# Altium schematic symbol library IMR_LIB_SCH_R2.SchLib: 166 symbols (part 2 of 2)
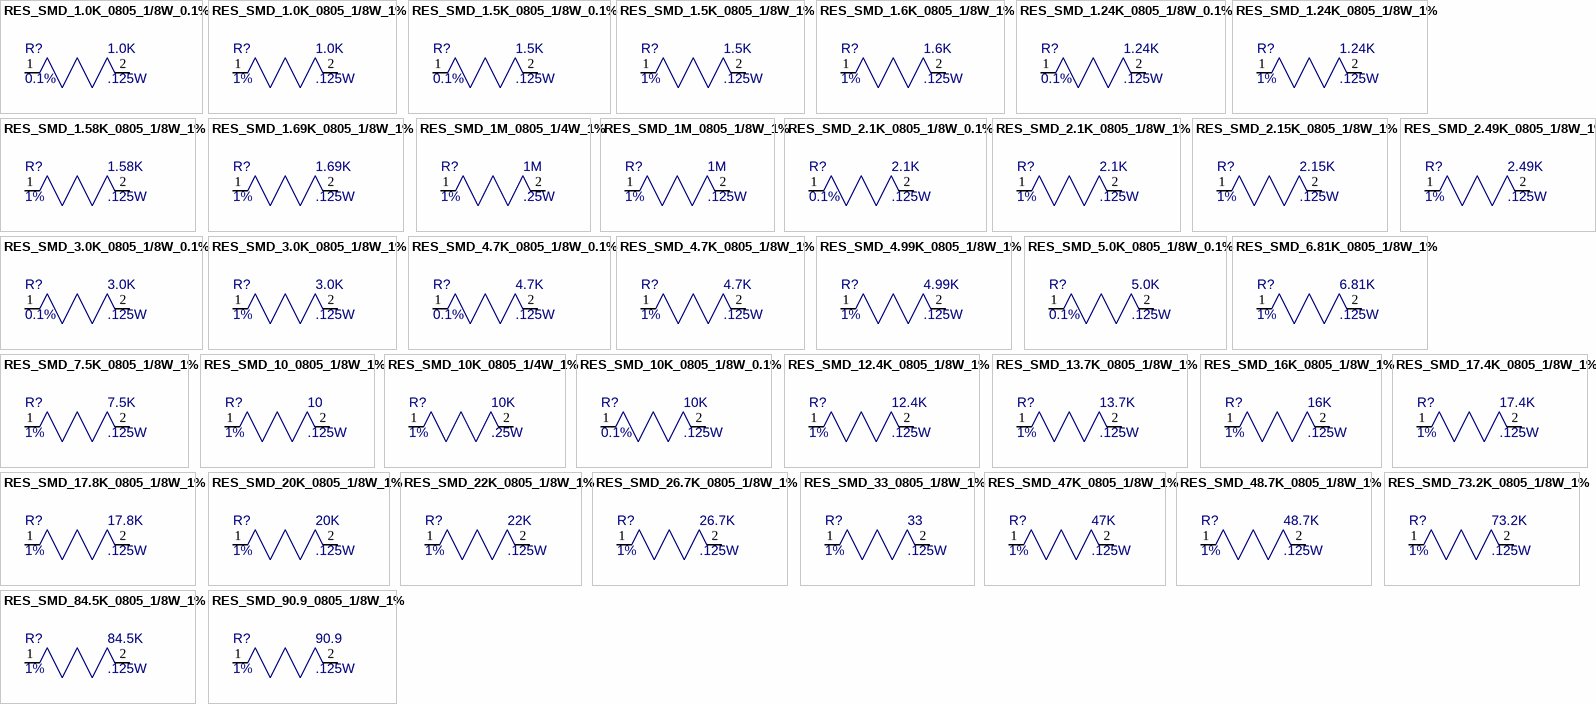
[diagram p5: symbols RES_SMD_1.0K_0805_1/8W_0.1% to RES_SMD_90.9_0805_1/8W_1%]

## RES_SMD_47K_0805_1/8W_1%
designator R?, comment value 47K  Power: .125W  Tolerance: 1%  (hidden comment: RC0805FR-1347KL)
RES SMD 47K OHM 1% 1/8W 0805; MFG: Yageo; Case/Package: 0805; MFG_PN: RC0805FR-1347KL; Supplier 1: DigiKey; Supplier Part Number 1: 13-RC0805FR-1347KLCT-ND; Unit Price: .1
footprint RES_0805
pins: 1, 2

## RES_SMD_48.7K_0805_1/8W_1%
designator R?, comment value 48.7K  Power: .125W  Tolerance: 1%  (hidden comment: RC0805FR-0748K7L)
RES SMD 48.7K OHM 1% 1/8W 0805; MFG: Yageo; Case/Package: 0805; MFG_PN: RC0805FR-0748K7L; Supplier 1: DigiKey; Supplier Part Number 1: 311-48.7KCRCT-ND; Unit Price: .1
footprint RES_0805
pins: 1, 2

## RES_SMD_73.2K_0805_1/8W_1%
designator R?, comment value 73.2K  Power: .125W  Tolerance: 1%  (hidden comment: RC0805FR-0773K2L)
RES SMD 73.2K OHM 1% 1/8W 0805; MFG: Yageo; Case/Package: 0805; MFG_PN: RC0805FR-0773K2L; Supplier 1: DigiKey; Supplier Part Number 1: 311-73.2KCRCT-ND; Unit Price: .1
footprint RES_0805
pins: 1, 2

## RES_SMD_84.5K_0805_1/8W_1%
designator R?, comment value 84.5K  Power: .125W  Tolerance: 1%  (hidden comment: RC0805FR-0784K5L)
RES SMD 84.5K OHM 1% 1/8W 0805; MFG: Yageo; Case/Package: 0805; MFG_PN: RC0805FR-0784K5L; Supplier 1: DigiKey; Supplier Part Number 1: 311-84.5KCRCT-ND; Unit Price: .1
footprint RES_0805
pins: 1, 2

## RES_SMD_90.9_0805_1/8W_1%
designator R?, comment value 90.9  Power: .125W  Tolerance: 1%  (hidden comment: RC0805FR-0790R9L)
RES SMD 90.9 OHM 1% 1/8W 0805; MFG: Yageo; Case/Package: 0805; MFG_PN: RC0805FR-0790R9L; Supplier 1: DigiKey; Supplier Part Number 1: 311-90.9CRCT-ND; Unit Price: .1
footprint RES_0805
pins: 1, 2

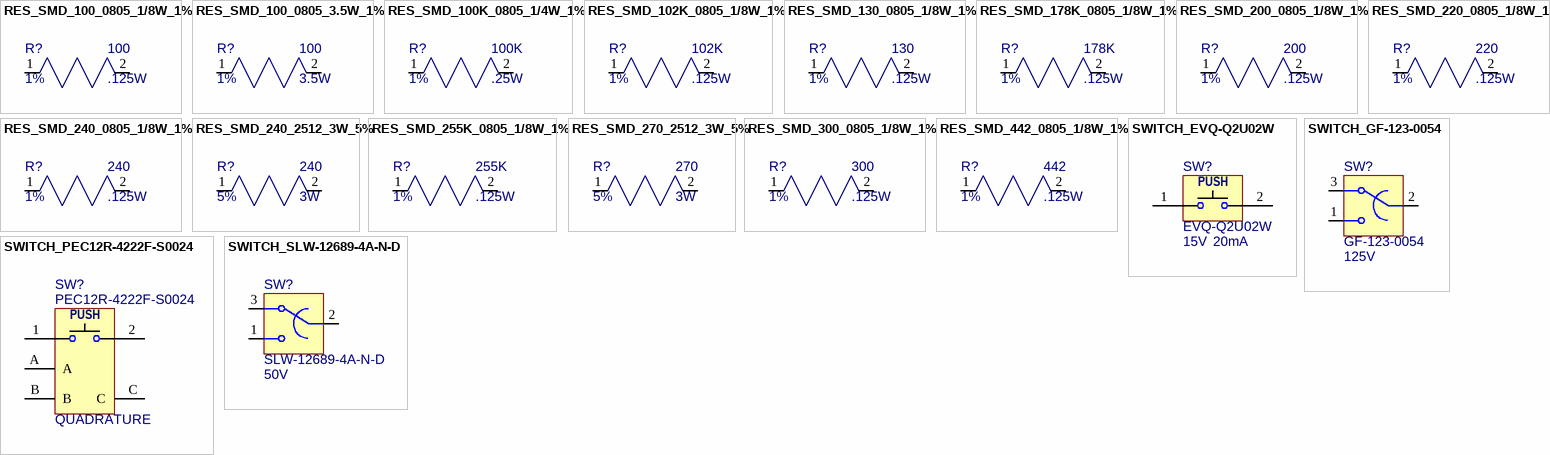
[diagram p4: symbols RES_SMD_100_0805_1/8W_1% to SWITCH_SLW-12689-4A-N-D]

## RES_SMD_100_0805_1/8W_1%
designator R?, comment value 100  Power: .125W  Tolerance: 1%  (hidden comment: RC0805FR-07100RL)
RES SMD 100 OHM 1% 1/8W 0805; MFG: Yageo; Case/Package: 0805; MFG_PN: RC0805FR-07100RL; Supplier 1: DigiKey; Supplier Part Number 1: 311-100CRCT-ND; Unit Price: .1
footprint RES_0805
pins: 1, 2

## RES_SMD_100_0805_3.5W_1%
designator R?, comment value 100  Power: 3.5W  Tolerance: 1%  (hidden comment: ALN2512F100RE-1)
RES SMD 100 OHM 1% 3.5W 2512; MFG: Ohmite; Case/Package: 2512; MFG_PN: ALN2512F100RE-1; Supplier 1: DigiKey; Supplier Part Number 1: 273-ALN2512F100RE-1CT-ND; Unit Price: 1.50
footprint RES_2512 (RESISTOR 2512)
pins: 1, 2

## RES_SMD_100K_0805_1/4W_1%
designator R?, comment value 100K  Power: .25W  Tolerance: 1%  (hidden comment: RC0805FR-07100KL)
RES SMD 100K OHM 1% 1/4W 0805; MFG: Yageo; Case/Package: 0805; MFG_PN: RC0805FR-07100KL; Supplier 1: DigiKey; Supplier Part Number 1: 311-100KCRCT-ND; Unit Price: .13
footprint RES_0805
pins: 1, 2

## RES_SMD_102K_0805_1/8W_1%
designator R?, comment value 102K  Power: .125W  Tolerance: 1%  (hidden comment: RC0805FR-07102KL)
RES SMD 102K OHM 1% 1/8W 0805; MFG: Yageo; Case/Package: 0805; MFG_PN: RC0805FR-07102KL; Supplier 1: DigiKey; Supplier Part Number 1: 311-102KCRCT-ND; Unit Price: .10
footprint RES_0805
pins: 1, 2

## RES_SMD_130_0805_1/8W_1%
designator R?, comment value 130  Power: .125W  Tolerance: 1%  (hidden comment: RC0805FR-07130RL)
RES SMD 130 OHM 1% 1/8W 0805; MFG: Yageo; Case/Package: 0805; MFG_PN: RC0805FR-07130RL; Supplier 1: DigiKey; Supplier Part Number 1: 311-130CRCT-ND; Unit Price: .1
footprint RES_0805
pins: 1, 2

## RES_SMD_178K_0805_1/8W_1%
designator R?, comment value 178K  Power: .125W  Tolerance: 1%  (hidden comment: RC0805FR-07178KL)
RES SMD 178K OHM 1% 1/8W 0805; MFG: Yageo; Case/Package: 0805; MFG_PN: RC0805FR-07178KL; Supplier 1: DigiKey; Supplier Part Number 1: 311-178KCRCT-ND; Unit Price: .10
footprint RES_0805
pins: 1, 2

## RES_SMD_200_0805_1/8W_1%
designator R?, comment value 200  Power: .125W  Tolerance: 1%  (hidden comment: RC0805FR-07200RL)
RES SMD 200 OHM 1% 1/8W 0805; MFG: Yageo; Case/Package: 0805; MFG_PN: RC0805FR-07200RL; Supplier 1: DigiKey; Supplier Part Number 1: 311-200CRCT-ND; Unit Price: .1
footprint RES_0805
pins: 1, 2

## RES_SMD_220_0805_1/8W_1%
designator R?, comment value 220  Power: .125W  Tolerance: 1%  (hidden comment: RC0805FR-07220RL)
RES SMD 220 OHM 1% 1/8W 0805; MFG: Yageo; Case/Package: 0805; MFG_PN: RC0805FR-07220RL; Supplier 1: DigiKey; Supplier Part Number 1: 311-220CRCT-ND; Unit Price: .1
footprint RES_0805
pins: 1, 2

## RES_SMD_240_0805_1/8W_1%
designator R?, comment value 240  Power: .125W  Tolerance: 1%  (hidden comment: RC0805FR-13240RL)
RES SMD 240 OHM 1% 1/8W 0805; MFG: Yageo; Case/Package: 0805; MFG_PN: RC0805FR-13240RL; Supplier 1: DigiKey; Supplier Part Number 1: 13-RC0805FR-13240RLCT-ND; Unit Price: .1
footprint RES_0805
pins: 1, 2

## RES_SMD_240_2512_3W_5%
designator R?, comment value 240  Power: 3W  Tolerance: 5%  (hidden comment: RC2512JK-07240RL)
RES 240 OHM 5% 3W 2512; MFG: Yageo; Case/Package: 2512; MFG_PN: RC2512JK-07240RL; Supplier 1: DigiKey; Supplier Part Number 1: 13-RC2512JK-07240RLCT-ND; Unit Price: .28
footprint RES_2512 (RESISTOR 2512)
pins: 1, 2

## RES_SMD_255K_0805_1/8W_1%
designator R?, comment value 255K  Power: .125W  Tolerance: 1%  (hidden comment: RC0805FR-07255KL)
RES SMD 255K OHM 1% 1/8W 0805; MFG: Yageo; Case/Package: 0805; MFG_PN: RC0805FR-07255KL; Supplier 1: DigiKey; Supplier Part Number 1: 311-255KCRCT-ND; Unit Price: .10
footprint RES_0805
pins: 1, 2

## RES_SMD_270_2512_3W_5%
designator R?, comment value 270  Power: 3W  Tolerance: 5%  (hidden comment: RC2512JK-07270RL)
RES 270 OHM 5% 1W 2512; MFG: Yageo; Case/Package: 2512; MFG_PN: RC2512JK-07270RL; Supplier 1: DigiKey; Supplier Part Number 1: 13-RC2512JK-07270RLCT-ND; Unit Price: .21
footprint RES_2512 (RESISTOR 2512)
pins: 1, 2

## RES_SMD_300_0805_1/8W_1%
designator R?, comment value 300  Power: .125W  Tolerance: 1%  (hidden comment: RC0805FR-07300RL)
RES SMD 300 OHM 1% 1/8W 0805; MFG: Yageo; Case/Package: 0805; MFG_PN: RC0805FR-07300RL; Supplier 1: DigiKey; Supplier Part Number 1: 311-300CRCT-ND; Unit Price: .1
footprint RES_0805
pins: 1, 2

## RES_SMD_442_0805_1/8W_1%
designator R?, comment value 442  Power: .125W  Tolerance: 1%  (hidden comment: RC0805FR-07442RL)
RES SMD 442 OHM 1% 1/8W 0805; MFG: Yageo; Case/Package: 0805; MFG_PN: RC0805FR-07442RL; Supplier 1: DigiKey; Supplier Part Number 1: 311-442CRCT-ND; Unit Price: .1
footprint RES_0805
pins: 1, 2

## SWITCH_EVQ-Q2U02W
designator SW?, comment value 15V  Current: 20mA  (hidden comment: EVQ-Q2U02W)
SWITCH TACTILE SPST-NO 0.02A 15V; MFG: American Zettler; Case/Package: EVQQ2; Supplier 1: DigiKey; Supplier Part Number 1: P12954SCT-ND; Unit Price: .25; MFG_PN: EVQ-Q2U02W
footprint PANASONIC_EVQ-Q2U02W (SWITCH)
pins: 1 B, 2 B'
text: PUSH

## SWITCH_GF-123-0054
designator SW?, comment value 125V  (hidden comment: GF-123-0054)
SWITCH SLIDE SPDT 300MA 50V; MFG: CW Industries; Current: 8.5A; Case/Package: SLW-12689-4A-N-D; Supplier 1: DigiKey; Supplier Part Number 1: CWI333-ND; Unit Price: 1.70; MFG_PN: GF-123-0054
footprint SLW126894AND
pins: 1, 2, 3

## SWITCH_PEC12R-4222F-S0024
designator SW?, comment Output: QUADRATURE  (hidden comment: PEC12R-4222F-S0024)
ENCODER INCRE QUAD HORIZN PC PIN; MFG: Bourns; Pulses: 24; Case/Package: PEC12R; Supplier 1: DigiKey; Supplier Part Number 1: PEC12R-4222F-S0024-ND; Unit Price: 1.72; MFG_PN: PEC12R-4222F-S0024
footprint PEC12R-4222F-S0024 (ENCODER INCRE QUAD HORIZN PC PIN)
pins: 1 B, 2 B', A, B, C
text: PUSH

## SWITCH_SLW-12689-4A-N-D
designator SW?, comment value 50V  (hidden comment: SLW-12689-4A-N-D)
SWITCH SLIDE SPDT 300MA 50V; MFG: Same Sky; Case/Package: SLW-12689-4A-N-D; Supplier 1: DigiKey; Supplier Part Number 1: 2223-SLW-12689-4A-N-D-ND; Unit Price: .48; Current: 300mA; MFG_PN: SLW-12689-4A-N-D
footprint SLW126894AND
pins: 1, 2, 3